# EAGLE library part SX1509 (library bschulz)
Semtech SX1509 The SX1509 is a complete ultra low voltage 1.2V to 3.6V General Purpose parallel Input/Output (GPIO) expanders ideal for low power handheld battery powered equipment. This version comes in a 16-channel configuration and allows easy serial expansion of I/O through a standard 400kHz I2C interface. GPIO devices can provide additional control and monitoring when the microcontroller or chipset has insufficient I/O ports, or in systems where serial communication and control from a remote location is advantageous. Datasheet <http://cdn.sparkfun.com/datasheets/BreakoutBoards/sx1509.pdf> SparkFun Products SparkFun 16 Output I/O Expander Breakout - SX1509 <https://www.sparkfun.com/products/13601> (BOB-13601) SparkFun Line Follower Array <https://www.sparkfun.com/products/13582> (SEN-13582)
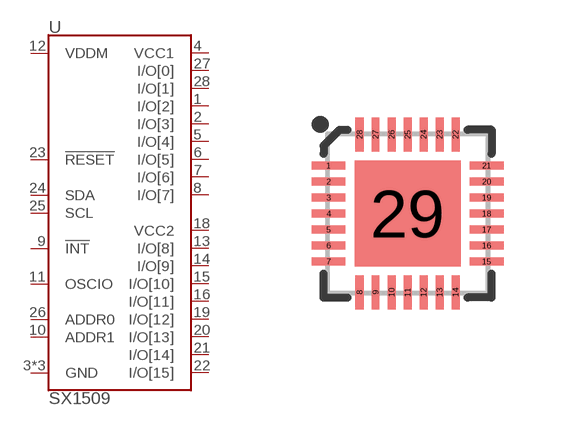
[diagram p18: symbol with the pads of QFN-28; footprint QFN-28]

Designator prefix U

## SX1509 (DIGIKEY: SX1509BIULCT-ND; MF: Semtech; MPN: SX1509BIULTRT)  [QFN-28]
1  I/O[2]
2  I/O[3]
3  GND
4  VCC1
5  I/O[4]
6  I/O[5]
7  I/O[6]
8  I/O[7]
9  !INT
10  ADDR1
11  OSCIO
12  VDDM
13  I/O[8]
14  I/O[9]
15  I/O[10]
16  I/O[11]
17  GND
18  VCC2
19  I/O[12]
20  I/O[13]
21  I/O[14]
22  I/O[15]
23  !RESET
24  SDA
25  SCL
26  ADDR0
27  I/O[0]
28  I/O[1]
29  GND

## Footprint QFN-28 (pad centres in mm)
smd 0.85 x 0.2: 1 -1.975,1.2; 2 -1.975,0.8; 3 -1.975,0.4; 4 -1.975,0; 5 -1.975,-0.4; 6 -1.975,-0.8; 7 -1.975,-1.2; 15 1.975,-1.2; 16 1.975,-0.8; 17 1.975,-0.4; 18 1.975,0; 19 1.975,0.4; 20 1.975,0.8; 21 1.975,1.2
smd 0.2 x 0.85: 8 -1.2,-1.975; 9 -0.8,-1.975; 10 -0.4,-1.975; 11 0,-1.975; 12 0.4,-1.975; 13 0.8,-1.975; 14 1.2,-1.975; 22 1.2,1.975; 23 0.8,1.975; 24 0.4,1.975; 25 0,1.975; 26 -0.4,1.975; 27 -0.8,1.975; 28 -1.2,1.975
smd 2.65 x 2.65: 29 0,0